# EAGLE library part EK-TM4C123GXL (library tmt_lib)
Tiva C TM4C123G Board EK-TM4C123GXL of Tiva™ C Series TM4C123G Thalisson Tavares - tmt2@cin.ufpe.br
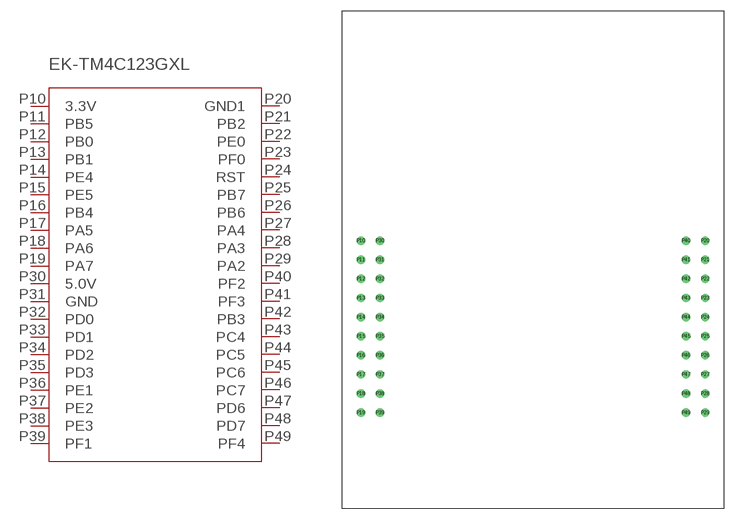
[diagram p0: symbol with the pads of EK-TM4C123GXL; footprint EK-TM4C123GXL]

Designator prefix -

## EK-TM4C123GXL  [EK-TM4C123GXL]
P10  3.3V
P11  PB5
P12  PB0
P13  PB1
P14  PE4
P15  PE5
P16  PB4
P17  PA5
P18  PA6
P19  PA7
P20  GND1
P21  PB2
P22  PE0
P23  PF0
P24  RST
P25  PB7
P26  PB6
P27  PA4
P28  PA3
P29  PA2
P30  5.0V
P31  GND
P32  PD0
P33  PD1
P34  PD2
P35  PD3
P36  PE1
P37  PE2
P38  PE3
P39  PF1
P40  PF2
P41  PF3
P42  PB3
P43  PC4
P44  PC5
P45  PC6
P46  PC7
P47  PD6
P48  PD7
P49  PF4

## Footprint EK-TM4C123GXL (pad centres in mm)
drill 0.6: P10 2.54,35.56; P11 2.54,33.02; P12 2.54,30.48; P13 2.54,27.94; P14 2.54,25.4; P15 2.54,22.86; P16 2.54,20.32; P17 2.54,17.78; P18 2.54,15.24; P19 2.54,12.7; P20 48.26,35.56; P21 48.26,33.02; P22 48.26,30.48; P23 48.26,27.94; P24 48.26,25.4; P25 48.26,22.86; P26 48.26,20.32; P27 48.26,17.78; P28 48.26,15.24; P29 48.26,12.7; P30 5.08,35.56; P31 5.08,33.02; P32 5.08,30.48; P33 5.08,27.94; P34 5.08,25.4; P35 5.08,22.86; P36 5.08,20.32; P37 5.08,17.78; P38 5.08,15.24; P39 5.08,12.7; P40 45.72,35.56; P41 45.72,33.02; P42 45.72,30.48; P43 45.72,27.94; P44 45.72,25.4; P45 45.72,22.86; P46 45.72,20.32; P47 45.72,17.78; P48 45.72,15.24; P49 45.72,12.7